# Altium footprint library CC1125-TR-4S  Altium Designer.PcbLib: 1 footprints
Each footprint in its own frame and in the unit in brackets; x right, y up, seen from the top. Pads: shape width x height; smd on the part's side, far side on the other; paste and mask are expansions set on the pad; w line width, h text height; cw(c..) or ccw(c..) is an arc to the next point about the centre after c.
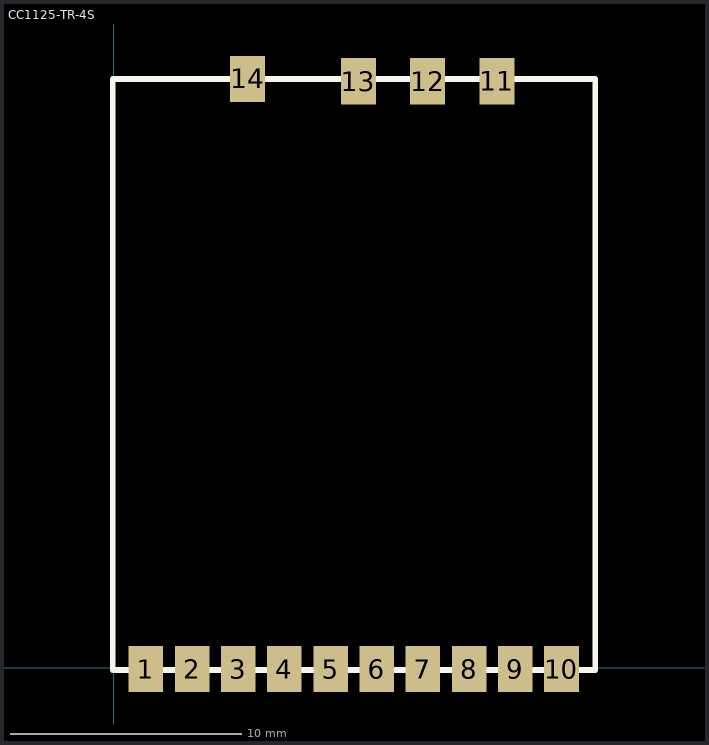
[diagram p0: the footprint, top view; thin cyan lines are the x and y axes]

## CC1125-TR-4S [mm]
pads (14):
  rect 1.5x2 smd: 1(1.385,-0.067) 2(3.385,-0.067) 3(5.385,-0.067) 4(7.385,-0.067) 5(9.385,-0.067) 6(11.385,-0.067) 7(13.385,-0.067) 8(15.385,-0.067) 9(17.385,-0.067) 10(19.385,-0.067)
  rect 1.524x2 smd: 11(16.589,25.4) 12(13.589,25.4) 13(10.589,25.4) 14(5.791,25.5)
Top Overlay:
  lines w0.254: -0.051,-0.1 -0.051,25.5 20.849,25.5 20.849,-0.1 -0.051,-0.1